# Altium schematic symbol library RF Connectors.SchLib: 8 symbols
Pins are listed as number, name and electrical type; pins without a type are passive.

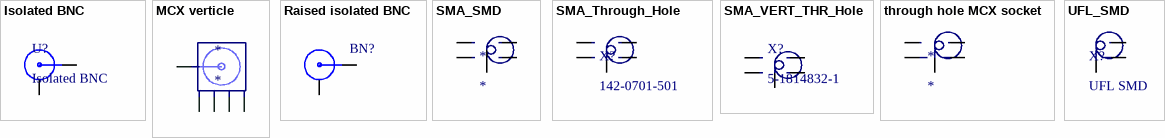
[diagram p0: symbols Isolated BNC to UFL_SMD]

## Isolated BNC
designator U?
Supplier 1: Farnell; Supplier 2: Newark; Supplier Part Number 1: 1020954; Supplier Part Number 2: 78M7204
footprint Isolated BNC
pins: 1, 2, 3 hidden to 1, 4 hidden to 1

## MCX verticle
designator *
footprint though hole mcx verticle; pin to pad 1>3 2>4 3>5 4>6 5>7
pins: 1 (hiz), 2, 3, 4, 5

## Raised isolated BNC
designator BN?, comment Raised BNC  (value not drawn)
Supplier 1: Farnell; Supplier Part Number 1: 2069808
footprint RAISED ISOLATED BNC (Raised isolated BNC 1.8mm offset)
pins: 1, 2

## SMA_SMD
designator *
Supplier 1: Farnell; Supplier Part Number 1: 1169632
footprint SMA_SMD (Through hole sma board to panel connector)
pins: 1, 2, 3, 4, 5

## SMA_Through_Hole
designator X?, comment 142-0701-501
Supplier 1: Farnell; Supplier 2: Farnell; Supplier Part Number 1: 2293854; Supplier Part Number 2: 1248989
footprint SMA_Through_Hole
pins: 1, 2, 3, 4, 5

## SMA_VERT_THR_Hole
designator X?, comment 5-1814832-1
Vertical Through hole SMA; Supplier 1: Farnell; Supplier 2: RSComponents; Supplier Part Number 1: 1248990; Supplier Part Number 2: 616-3422
footprint SMA_VERT_5-1814832-1 (Vertical sma 5-1814832-1)
pins: 1, 2, 3, 4, 5

## through hole MCX socket
designator *
footprint though hole mcx verticle
pins: 3, 4, 5, 6, 7

## UFL_SMD
designator X?, comment UFL SMD
Supplier 1: Farnell; Supplier Part Number 1: 1688077
footprint UFL
pins: 1, 2, 3